# Altium schematic symbol library 2EDGKA-5.0-02P-14-00A(H).SchLib: 1 symbol
Pins are listed as number, name and electrical type; pins without a type are passive.

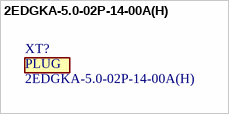
[diagram p0: symbol 2EDGKA-5.0-02P-14-00A(H)]

## 2EDGKA-5.0-02P-14-00A(H)
designator XT?
2 Position Terminal Block Plug; MF: TE Connectivity; MP: 284506-2; SnapEDA_Link: https://www.snapeda.com/parts/284506-2/TE+Connectivity+AMP+Connectors/view-part/?ref=snap; Package: None; Value: *; EU_RoHS_Compliance: Compliant with Exemptions; Check_prices: https://www.snapeda.com/parts/284506-2/TE+Connectivity+AMP+Connectors/view-part/?ref=eda
footprint 2EDGKA-5.0-02P-14-00A(H)
text: PLUG